# EAGLE library part AS-ITM-00277 (library tinycircuits)
IC LED BOOST DC DC BACKLIGHT 8-WLCSP
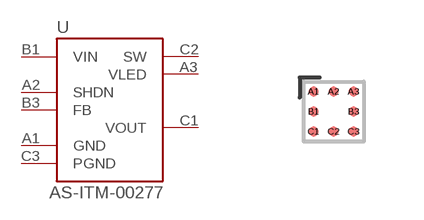
[diagram p113: symbol with the pads of WLCSP8_1_57X1_57; footprint WLCSP8_1_57X1_57]

Designator prefix U

## AS-ITM-00277 (PARTNO: AS-ITM-00277; VALUE: FAN5340)  [WLCSP8_1_57X1_57]
A1  GND
A2  SHDN
A3  VLED
B1  VIN
B3  FB
C1  VOUT
C2  SW
C3  PGND

## Footprint WLCSP8_1_57X1_57 (pad centres in mm)
smd 0.25 x 0.25: A1 -0.5,0.5; A2 0,0.5; A3 0.5,0.5; B1 -0.5,0; B3 0.5,0; C1 -0.5,-0.5; C2 0,-0.5; C3 0.5,-0.5